# EAGLE library part DIP-TOGGLE-SWITCH-2CH-(2X3P-2.54-90D) (library OPL_Switch)
311030004
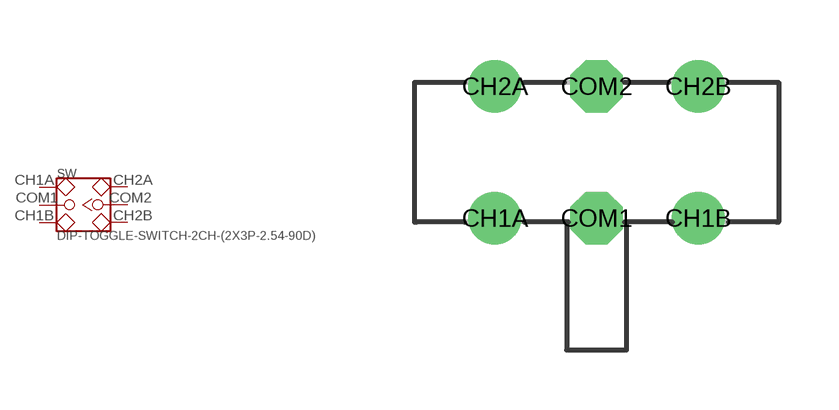
[diagram p1: symbol with the pads of SW6-2.54-9.0X3.5X3.2MM-90D; footprint SW6-2.54-9.0X3.5X3.2MM-90D]

Designator prefix SW

## DIP-TOGGLE-SWITCH-2CH-(2X3P-2.54-90D)'90D'  [SW6-2.54-9.0X3.5X3.2MM-90D]
CH1A  CH1A
CH1B  CH1B
CH2A  CH2A
CH2B  CH2B
COM1  COM1
COM2  COM2

## Footprint SW6-2.54-9.0X3.5X3.2MM-90D (pad centres in mm)
drill 0.813 pad 1.27: CH1A -2.54,-1.65; CH1B 2.54,-1.65; CH2A -2.54,1.65; CH2B 2.54,1.65
drill 0.813 pad 1.27 octagon: COM1 0,-1.65; COM2 0,1.65